# Altium schematic symbol library OLED_LCD.SchLib: 19 symbols
Pins are listed as number, name and electrical type; pins without a type are passive.

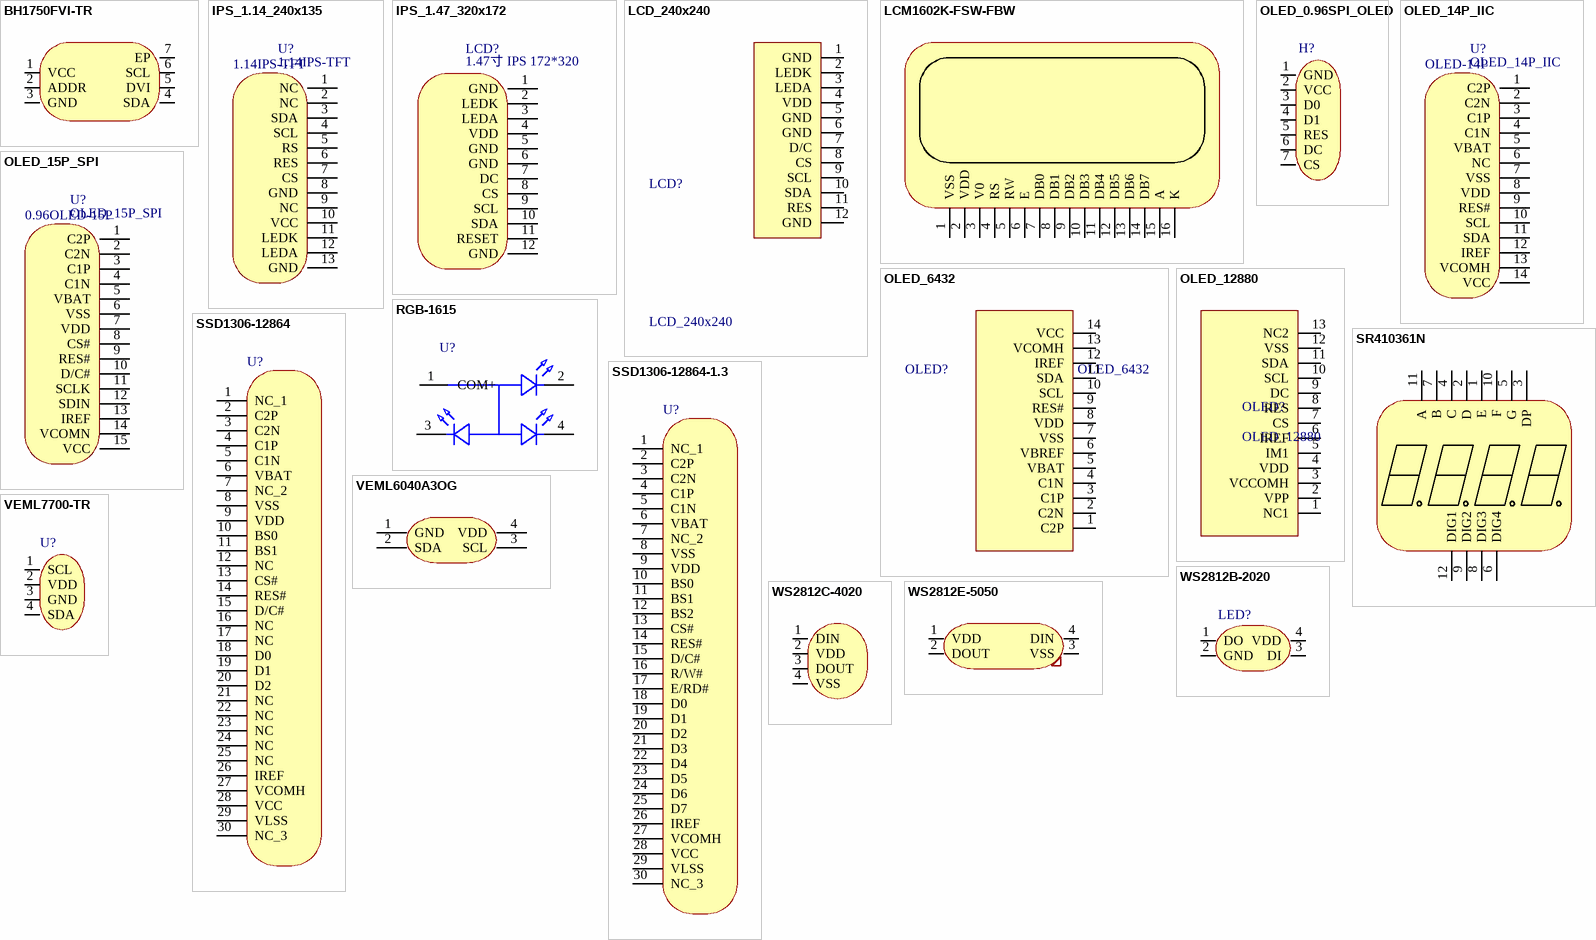
[diagram p0: symbols BH1750FVI-TR to WS2812E-5050]

## BH1750FVI-TR
designator U??  (value not drawn)
Manufacturer: ROHM(罗姆); Add into BOM: yes; Name: BH1750FVI-TR; Symbol: BH1750FVI-TR; Device: BH1750FVI-TR; LCSC Part Name: BH1750FVI-TR; Supplier Part: C78960; Manufacturer Part: BH1750FVI-TR; Supplier Footprint: WSOF-6; JLCPCB Part Class: Extended Part; Datasheet: https://atta.szlcsc.com/upload/public/pdf/source/20160723/1469258984787.pdf; Supplier: LCSC; Convert to PCB: yes
footprint WSOF-6_L2.6-W1.6-P0.50-TL-EP
pins: 1 VCC, 2 ADDR, 3 GND, 4 SDA, 5 DVI, 6 SCL, 7 EP

## IPS_1.14_240x135
designator U?, comment 1.14IPS-TFT
Convert to PCB: yes; Symbol: 1.14IPS-TFT; Device: 1.14IPS-TFT; Add into BOM: yes; Origin Footprint: 1.14IPS; Name: 1.14IPS-TFT
footprint IPS_240x135_13P (中景园)
pins: 1 NC, 2 NC, 3 SDA, 4 SCL, 5 RS, 6 RES, 7 CS, 8 GND, 9 NC, 10 VCC, 11 LEDK, 12 LEDA, 13 GND

## IPS_1.47_320x172
designator LCD?, comment 1.47寸 IPS 172*320
中景园圆角IPS; Convert to PCB: yes; Origin Footprint: 1.47LCD-IPS-172*320-反面; Add into BOM: yes; Symbol: 1.47寸 IPS 172*320; Device: 1.47寸 IPS 172*320
footprint IPS_320x172_12P (中景园1.47寸圆角IPS)
pins: 1 GND, 2 LEDK, 3 LEDA, 4 VDD, 5 GND, 6 GND, 7 DC, 8 CS, 9 SCL, 10 SDA, 11 RESET, 12 GND

## LCD_240x240
designator LCD?
LCD_240x240显示屏
footprint LCD_240X240 (LCD_240X240-FLUSH-154)
footprint LCD_128X128_12P (LCD_240X240-FLUSH-154)
pins: 1 GND, 2 LEDK, 3 LEDA, 4 VDD, 5 GND, 6 GND, 7 D/C, 8 CS, 9 SCL, 10 SDA, 11 RES, 12 GND

## LCM1602K-FSW-FBW
designator LCD??  (value not drawn)
Manufacturer: LONTECH(厦门龙特); Add into BOM: yes; Main Control Chip: KS0066U; Symbol: LCM1602K-FSW-FBW; Device: LCM1602K-FSW-FBW; LCSC Part Name: LCM1602K-FSW-FBW; Supplier Part: C83274; Manufacturer Part: LCM1602K-FSW-FBW; Supplier Footprint: -; JLCPCB Part Class: Extended Part; Datasheet: https://atta.szlcsc.com/upload/public/pdf/source/20161111/1478835373818.pdf; Supplier: LCSC; Convert to PCB: yes; Size: -
footprint MODULE-TH_LCM1602K
pins: 1 VSS, 2 VDD, 3 V0, 4 RS, 5 RW, 6 E, 7 DB0, 8 DB1, 9 DB2, 10 DB3, 11 DB4, 12 DB5, 13 DB6, 14 DB7, 15 A, 16 K

## OLED_0.96SPI_OLED
designator H?  (value not drawn)
Manufacturer: 中景园; Manufacturer Part: X5511FV-07-C70D30-1000; Add into BOM: yes; Symbol: OLED_0.96SPI_OLED; Device: OLED_0.96SPI_OLED; Supplier Part: C2684747; JLCPCB Part Class: 扩展库; Convert to PCB: yes
footprint OLED_0.96_7P
pins: 1 GND, 2 VCC, 3 D0, 4 D1, 5 RES, 6 DC, 7 CS

## OLED_14P_IIC
designator U?  Name: OLED-14P
Symbol: 1.14IPS-TFT; Convert to PCB: yes; Origin Footprint: 1.14IPS; Device: 1.14IPS-TFT; Add into BOM: yes
footprint OLED_0.96_14P
pins: 1 C2P, 2 C2N, 3 C1P, 4 C1N, 5 VBAT, 6 NC, 7 VSS, 8 VDD, 9 RES#, 10 SCL, 11 SDA, 12 IREF, 13 VCOMH, 14 VCC

## OLED_15P_SPI
designator U?  Name: 0.96OLED-15P
Symbol: 1.14IPS-TFT; Convert to PCB: yes; Origin Footprint: 1.14IPS; Device: 1.14IPS-TFT; Add into BOM: yes
footprint OLED_0.96_15P
pins: 1 C2P, 2 C2N, 3 C1P, 4 C1N, 5 VBAT, 6 VSS, 7 VDD, 8 CS#, 9 RES#, 10 D/C#, 11 SCLK, 12 SDIN, 13 IREF, 14 VCOMN, 15 VCC

## OLED_6432
designator OLED?
OLED_64*32
footprint OLED_6432 (OLED_64*32)
pins: 1 C2P, 2 C2N, 3 C1P, 4 C1N, 5 VBAT, 6 VBREF, 7 VSS, 8 VDD, 9 RES#, 10 SCL, 11 SDA, 12 IREF, 13 VCOMH, 14 VCC

## OLED_12880
designator OLED?
OLED_128*80
footprint OLED_12880 (OLED_128*80)
pins: 1 NC1, 2 VPP, 3 VCCOMH, 4 VDD, 5 IM1, 6 IREF, 7 CS, 8 RES, 9 DC, 10 SCL, 11 SDA, 12 VSS, 13 NC2

## RGB-1615
designator U?, comment 1615RGB共阳  (value not drawn)
Name: 1616RGB共阳; Add into BOM: yes; Symbol: 1616RGB共阳; Device: 1616RGB共阳; LCSC Part Name: 1616RGB共阳; Supplier Part: C9900005926; Manufacturer Part: 1616RGB共阳; Supplier Footprint: LED-SMD_L1.6-W1.5; JLCPCB Part Class: 扩展库; Datasheet: https://atta.szlcsc.comnull; Supplier: LCSC; Convert to PCB: yes
footprint LED-SMD_4P-L1.6-W1.5-BL-2 (RGB1615)
pins: 1 COM+, 2, 3, 4

## SR410361N
designator LED??  (value not drawn)
Manufacturer: ARKLED(方舟); Add into BOM: yes; Number of Characters: 4位; Luminous Color: 红色; LED Polarity: 共阳极; Digit/Alpha Size(inch): 0.36; Symbol: SR410361N; Device: SR410361N; LCSC Part Name: 4位0.36英寸红色数码管 共阳极; Supplier Part: C132660; Manufacturer Part: SR410361N; Supplier Footprint: 插件; JLCPCB Part Class: Extended Part; Datasheet: https://atta.szlcsc.com/upload/public/pdf/source/20171014/C132660_15079754140001038126.pdf; Supplier: LCSC; Convert to PCB: yes
footprint LED-SEG-TH_12P-L30.0-W14.0-P2.54-S10.26-BL
pins: 1 E, 2 D, 3 DP, 4 C, 5 G, 6 DIG4, 7 B, 8 DIG3, 9 DIG2, 10 F, 11 A, 12 DIG1

## SSD1306-12864
designator U?, comment SSD1306/15  (value not drawn)
Convert to PCB: yes; Symbol: SSD1306/15; Device: SSD1306/15; Add into BOM: yes
footprint OLED_0.96_30P
footprint OLED_0.96_30P-CLEAR
pins: 1 NC_1, 2 C2P, 3 C2N, 4 C1P, 5 C1N, 6 VBAT, 7 NC_2, 8 VSS, 9 VDD, 10 BS0, 11 BS1, 12 NC, 13 CS#, 14 RES#, 15 D/C#, 16 NC, 17 NC, 18 D0, 19 D1, 20 D2, 21 NC, 22 NC, 23 NC, 24 NC, 25 NC, 26 IREF, 27 VCOMH, 28 VCC, 29 VLSS, 30 NC_3

## SSD1306-12864-1.3
designator U?, comment SSD1306/15  (value not drawn)
Convert to PCB: yes; Symbol: SSD1306/15; Device: SSD1306/15; Add into BOM: yes
footprint OLED12864_1.3
pins: 1 NC_1, 2 C2P, 3 C2N, 4 C1P, 5 C1N, 6 VBAT, 7 NC_2, 8 VSS, 9 VDD, 10 BS0, 11 BS1, 12 BS2, 13 CS#, 14 RES#, 15 D/C#, 16 R/W#, 17 E/RD#, 18 D0, 19 D1, 20 D2, 21 D3, 22 D4, 23 D5, 24 D6, 25 D7, 26 IREF, 27 VCOMH, 28 VCC, 29 VLSS, 30 NC_3

## VEML6040A3OG
designator U??  (value not drawn)
Manufacturer: VISHAY(威世); Add into BOM: yes; Detection color: 红色,绿色,蓝色,白色; Interface Type: I2C; Supply Voltage: 2.5V~3.6V; Symbol: VEML6040A3OG; Device: VEML6040A3OG; LCSC Part Name: VEML6040A3OG; Supplier Part: C78465; Manufacturer Part: VEML6040A3OG; Supplier Footprint: OPLGA-4(1.3x2); JLCPCB Part Class: Extended Part; Datasheet: https://atta.szlcsc.com/upload/public/pdf/source/20180511/C78465_1ECCD5CBB0DFD90660DF8047804D95FA.pdf; Supplier: LCSC; Convert to PCB: yes; Resolution: -; Quiescent Current (Iq): -; Operating Temperature: -40℃~+85℃
footprint SENSOR_SMD_VEML6040A3OG
pins: 1 GND, 2 SDA, 3 SCL, 4 VDD

## VEML7700-TR
designator U?  (value not drawn)
立贴IIC光线传感器; Manufacturer: VISHAY(威世); Add into BOM: yes; Name: VEML7700-TR; Symbol: VEML7700-TR; Device: VEML7700-TR; LCSC Part Name: I2C接口的高精度环境光传感器; Supplier Part: C504893; Manufacturer Part: VEML7700-TR; Supplier Footprint: SMD-4P; JLCPCB Part Class: 扩展库; Datasheet: https://atta.szlcsc.com/upload/public/pdf/source/20221116/DEE90B3A4BC655AA35A499F644213E9E.pdf; Supplier: LCSC; Convert to PCB: yes
footprint VEML7700-立贴
footprint VEML7700-卧贴
pins: 1 SCL, 2 VDD, 3 GND, 4 SDA

## WS2812B-2020
designator LED?  (value not drawn)
发光颜色:RGB三色;二极管配置:-;透镜颜色:-;主波长:470.4nm；622.5nm；515.6nm;峰值波长:-;色温:-;测试电流:12mA;功率:-;发光角度:-;安装方式:-;工作温度:-;; Manufacturer: worldsemi; Add into BOM: yes; Emitted Color: RGB三色; Forward Current: 12mA; Name: WS2812B-2020; Symbol: WS2812B-2020; Device: WS2812B-2020; LCSC Part Name: RGB三色 470.4nm 515.6nm 622.5nm （注意防潮，请查阅规格书中对应具体内容）; Supplier Part: C965555; Manufacturer Part: WS2812B-2020; Supplier Footprint: SMD,2x2mm; JLCPCB Part Class: 扩展库; Datasheet: https://atta.szlcsc.com/upload/public/pdf/source/20201203/C965555_5C919C4B6231E6ADE06011FB0D94282B.pdf; Supplier: LCSC; Convert to PCB: yes; Diode Configuration: -; Lens Color: -; Dominant Wavelength: 470.4nm；622.5nm；515.6nm; Peak Wavelength: -; Color Temperature: -; Power Dissipation: -; Viewing Angle: -; Mounting Sytle: -; Operating Temperature: -
footprint LED-SMD_4P-L2.0-W2.0-TL_WS2812B-2020
pins: 1 DO, 2 GND, 3 DI, 4 VDD

## WS2812C-4020
designator LED??  (value not drawn)
侧发光; Manufacturer: worldsemi; Add into BOM: yes; Symbol: WS2812C-4020; Device: WS2812C-4020; LCSC Part Name: SMD灯珠; Supplier Part: C4154870; Manufacturer Part: WS2812C-4020; Supplier Footprint: SMD,2x4mm; JLCPCB Part Class: Extended Part; Datasheet: https://atta.szlcsc.com/upload/public/pdf/source/20220711/8D8EEECCEBA49022B4A86B7B3F2B1512.pdf; Supplier: LCSC; Convert to PCB: yes
footprint LED-SMD_4P-L4.0-W1.7-R
pins: 1 DIN, 2 VDD, 3 DOUT, 4 VSS

## WS2812E-5050
designator LED??, comment WS2812E  (value not drawn)
Manufacturer: worldsemi; Add into BOM: yes; Symbol: WS2812E; Device: WS2812E; LCSC Part Name: WS2812E; Supplier Part: C139127; Manufacturer Part: WS2812E; Supplier Footprint: SMD5050; JLCPCB Part Class: Extended Part; Datasheet: https://atta.szlcsc.com/upload/public/pdf/source/20191217/C473063_1AFA2F5FD6E31E5FA7E7F342219CDFCF.pdf; Supplier: LCSC; Convert to PCB: yes
footprint LED-SMD_4P-L5.0-W5.0-BL_TC5050RGB
pins: 1 VDD, 2 DOUT, 3 VSS, 4 DIN